# Altium footprint library WE-SL5 HC.PcbLib: 1 footprints
Each footprint in its own frame and in the unit in brackets; x right, y up, seen from the top. Pads: shape width x height; smd on the part's side, far side on the other; paste and mask are expansions set on the pad; w line width, h text height; cw(c..) or ccw(c..) is an arc to the next point about the centre after c.
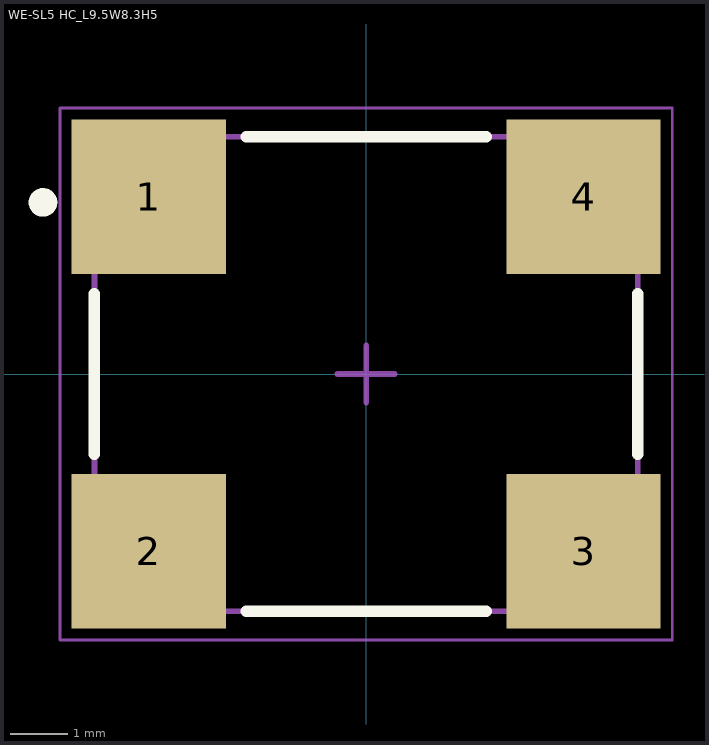
[diagram p0: the footprint, top view; thin cyan lines are the x and y axes]

## WE-SL5 HC_L9.5W8.3H5 [mm] "SMD Inductor, Body 8,3x9,5mm"
height 5.3
pads (4):
  rect 2.7x2.7 smd: 1(-3.8,3.1) 2(-3.8,-3.1) 3(3.8,-3.1) 4(3.8,3.1)
Top Overlay:
  circle w0.25: c-5.65,3 r0.125
  lines w0.2: -4.75,-1.4 -4.75,1.4 ; -2.1,-4.15 2.1,-4.15 ; -2.1,4.15 2.1,4.15 ; 4.75,-1.4 4.75,1.4
Top Assembly:
  circle w0.1: c-3.75,3.15 r0.5
  lines w0.1: -4.75,-4.15 4.75,-4.15 4.75,4.15 -4.75,4.15 -4.75,-4.15
Top Designator:
  text ".Designator" at -3.647,-0.357 h1
Top 3D Body:
  circle w0.1: c-3.75,3.15 r0.5
  lines w0.1: -4.75,-4.15 4.75,-4.15 4.75,4.15 -4.75,4.15 -4.75,-4.15
Top Courtyard:
  lines w0.05: -5.35,-4.65 5.35,-4.65 5.35,4.65 -5.35,4.65 -5.35,-4.65
Top Component Center:
  lines w0.1: -0.5,0 0.5,0 ; 0,-0.5 0,0.5
3D body "744273x01.stp": height 5.1, standoff 0, extent -4.75,-4.15 4.75,4.15